# Altium footprint library HF46F-G.PcbLib: 1 footprints
Each footprint in its own frame and in the unit in brackets; x right, y up, seen from the top. Pads: shape width x height; smd on the part's side, far side on the other; paste and mask are expansions set on the pad; w line width, h text height; cw(c..) or ccw(c..) is an arc to the next point about the centre after c.
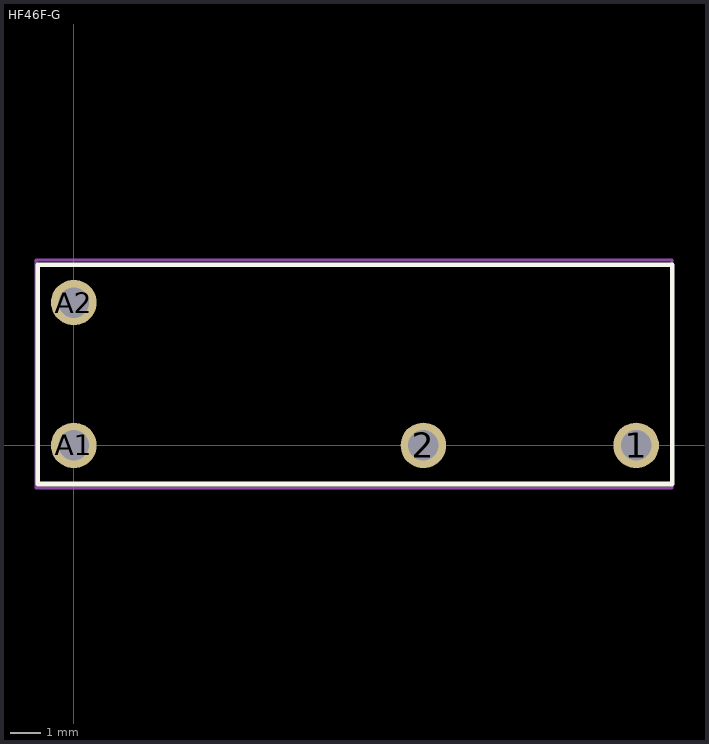
[diagram p0: the footprint, top view; thin cyan lines are the x and y axes]

## HF46F-G [mm]
pads (4):
  round 1.5 hole 1: 1(18.5,0) 2(11.5,0) A1(0,0) A2(0,4.7)
Top Overlay:
  lines w0.15: -1.18,-1.27 19.685,-1.27 19.685,5.95 -1.18,5.95 -1.18,-1.27
Mechanical 13:
  lines w0.1: -1.18,-1.27 -1.18,5.95 19.685,5.95 19.685,-1.27 -1.18,-1.27
Mechanical 15:
  lines w0.1: -1.25,-1.397 19.685,-1.397 19.685,6.096 -1.25,6.096 -1.25,-1.397
3D body: height 15.6, standoff -3.6, extent -1.032,-1.141 19.467,5.869